# EAGLE library part SPK0415HM4H (library GTA04b7)
Digital High-SNR Microphone
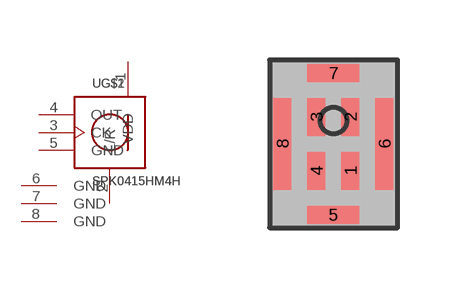
[diagram p40: symbol with the pads of SPK0415HM4H-B; footprint SPK0415HM4H-B]

Designator prefix -; gates G$1=MICRO G$2=MIC-DIG GND1=GND-PIN GND2=GND-PIN GND3=GND-PIN

## SPK0415HM4H  [SPK0415HM4H-B]
1  G$2:VDD  pwr
2  G$2:L/R  in
3  G$2:CK  in
4  G$1:OUT  out
5  G$1:GND  pwr
6  GND1:GND  pwr
7  GND2:GND  pwr
8  GND3:GND  pwr

## Footprint SPK0415HM4H-B (pad centres in mm)
Knowles SPK0415HM4H-B Digital microphone
smd 0.45 x 0.95: 1 0.425,-0.675; 2 0.425,0.675; 3 -0.425,0.675; 4 -0.425,-0.675
smd 1.3 x 0.45: 5 0,-1.775; 7 0,1.775
smd 0.45 x 2.3: 6 1.275,0; 8 -1.275,0